# Altium integrated library Telit GSM GPRS.IntLib: 2 symbols
Pins are listed as number, name and electrical type; pins without a type are passive.

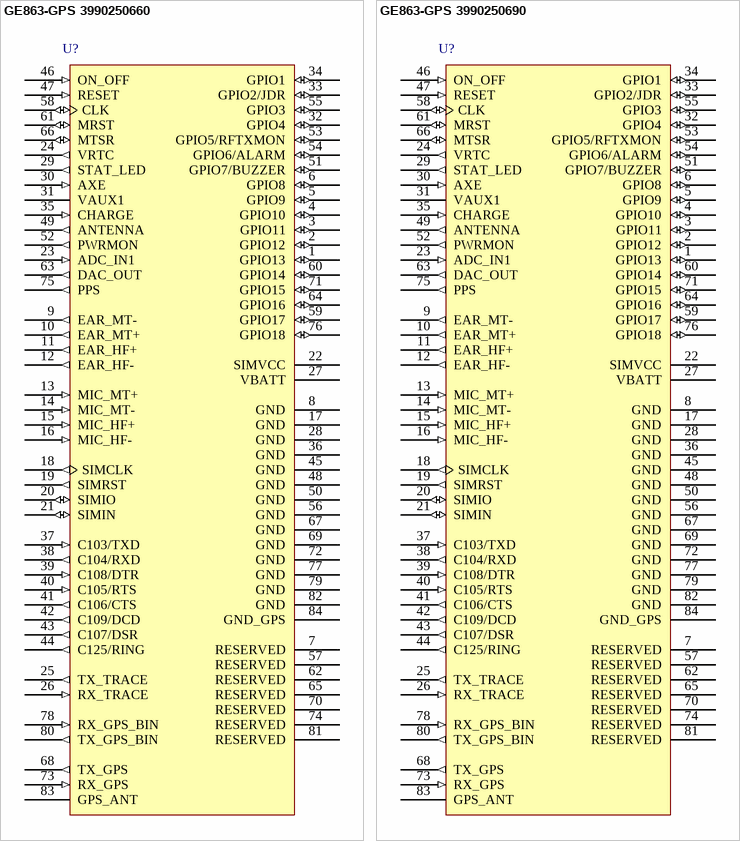
[diagram p0: symbols GE863-GPS 3990250660 to GE863-GPS 3990250690]

## GE863-GPS 3990250660
designator U?
GSM/GPRS (70mA) Module with 20-channel GPS and SiRFstarIII High-Sensitivity GPS Receiver, 84-Lead BGA; Published: 14-Mar-2008; DatasheetVersion: rev.6, Jun-2007; PackageVersion: Jun-2007; PackageReference: GE863-GPS; Publisher: Altium Limited; PackageDescription: GE863-GPS module; SM; 84 Leads; Body 41.4 x 31.4 mm (LxW max); ComponentLink1Description: Manufacturer Link; ComponentLink1URL: http://www.telit.com/en/products/gsm-gprs.php; ComponentLink2Description: Datasheet; ComponentLink2URL: http://www.telit.com/module/infopool/download.php?id=565
footprint GE863-GPSV (GE863-GPS module; SM; 84+67 Leads; Body 41.4 x 31.4 mm (LxW max))
footprint GE863-GPS2 (GE863-GPS module; SM; 84 Leads; Body 41.4 x 31.4 mm (LxW max))
pins: 1 GPIO13 (io), 2 GPIO12 (io), 3 GPIO11 (io), 4 GPIO10 (io), 5 GPIO9 (io), 6 GPIO8 (io), 7 RESERVED, 8 GND (power), 9 EAR_MT- (out), 10 EAR_MT+ (out), 11 EAR_HF+ (out), 12 EAR_HF- (out), 13 MIC_MT+ (in), 14 MIC_MT- (in), 15 MIC_HF+ (in), 16 MIC_HF- (in), 17 GND (power), 18 SIMCLK (out), 19 SIMRST (out), 20 SIMIO (io), 21 SIMIN (io), 22 SIMVCC (power), 23 ADC_IN1 (in), 24 VRTC (out), 25 TX_TRACE (out), 26 RX_TRACE (in), 27 VBATT (power), 28 GND (power), 29 STAT_LED (out), 30 AXE (in), 31 VAUX1 (power), 32 GPIO4 (io), 33 GPIO2/JDR (io), 34 GPIO1 (io), 35 CHARGE (in), 36 GND (power), 37 C103/TXD (in), 38 C104/RXD (out), 39 C108/DTR (in), 40 C105/RTS (in), 41 C106/CTS (out), 42 C109/DCD (out), 43 C107/DSR (out), 44 C125/RING (out), 45 GND (power), 46 ON_OFF (in), 47 RESET (in), 48 GND (power), 49 ANTENNA (out), 50 GND (power), 51 GPIO7/BUZZER (io), 52 PWRMON (out), 53 GPIO5/RFTXMON (io), 54 GPIO6/ALARM (io), 55 GPIO3 (io), 56 GND (power), 57 RESERVED, 58 CLK (io), 59 GPIO17 (io), 60 GPIO14 (io), 61 MRST (io), 62 RESERVED, 63 DAC_OUT (out), 64 GPIO16 (io), 65 RESERVED, 66 MTSR (io), 67 GND (power), 68 TX_GPS (out), 69 GND (power), 70 RESERVED, 71 GPIO15 (io), 72 GND (power), 73 RX_GPS (in), 74 RESERVED, 75 PPS (out), 76 GPIO18 (io), 77 GND (power), 78 RX_GPS_BIN (in), 79 GND (power), 80 TX_GPS_BIN (out), 81 RESERVED, 82 GND (power), 83 GPS_ANT, 84 GND_GPS (power)

## GE863-GPS 3990250690
designator U?
GSM/GPRS (55mA) Module with 20-channel GPS and SiRFstarIII High-Sensitivity GPS Receiver, 84-Lead BGA; Published: 14-Mar-2008; DatasheetVersion: rev.6, Jun-2007; PackageVersion: Jun-2007; PackageReference: GE863-GPS; Publisher: Altium Limited; PackageDescription: GE863-GPS module; SM; 84 Leads; Body 41.4 x 31.4 mm (LxW max); ComponentLink1Description: Manufacturer Link; ComponentLink1URL: http://www.telit.com/en/products/gsm-gprs.php; ComponentLink2Description: Datasheet; ComponentLink2URL: http://www.telit.com/module/infopool/download.php?id=565
footprint GE863-GPSV (GE863-GPS module; SM; 84+67 Leads; Body 41.4 x 31.4 mm (LxW max))
footprint GE863-GPS2 (GE863-GPS module; SM; 84 Leads; Body 41.4 x 31.4 mm (LxW max))
pins: 1 GPIO13 (io), 2 GPIO12 (io), 3 GPIO11 (io), 4 GPIO10 (io), 5 GPIO9 (io), 6 GPIO8 (io), 7 RESERVED, 8 GND (power), 9 EAR_MT- (out), 10 EAR_MT+ (out), 11 EAR_HF+ (out), 12 EAR_HF- (out), 13 MIC_MT+ (in), 14 MIC_MT- (in), 15 MIC_HF+ (in), 16 MIC_HF- (in), 17 GND (power), 18 SIMCLK (out), 19 SIMRST (out), 20 SIMIO (io), 21 SIMIN (io), 22 SIMVCC (power), 23 ADC_IN1 (in), 24 VRTC (out), 25 TX_TRACE (out), 26 RX_TRACE (in), 27 VBATT (power), 28 GND (power), 29 STAT_LED (out), 30 AXE (in), 31 VAUX1 (power), 32 GPIO4 (io), 33 GPIO2/JDR (io), 34 GPIO1 (io), 35 CHARGE (in), 36 GND (power), 37 C103/TXD (in), 38 C104/RXD (out), 39 C108/DTR (in), 40 C105/RTS (in), 41 C106/CTS (out), 42 C109/DCD (out), 43 C107/DSR (out), 44 C125/RING (out), 45 GND (power), 46 ON_OFF (in), 47 RESET (in), 48 GND (power), 49 ANTENNA (out), 50 GND (power), 51 GPIO7/BUZZER (io), 52 PWRMON (out), 53 GPIO5/RFTXMON (io), 54 GPIO6/ALARM (io), 55 GPIO3 (io), 56 GND (power), 57 RESERVED, 58 CLK (io), 59 GPIO17 (io), 60 GPIO14 (io), 61 MRST (io), 62 RESERVED, 63 DAC_OUT (out), 64 GPIO16 (io), 65 RESERVED, 66 MTSR (io), 67 GND (power), 68 TX_GPS (out), 69 GND (power), 70 RESERVED, 71 GPIO15 (io), 72 GND (power), 73 RX_GPS (in), 74 RESERVED, 75 PPS (out), 76 GPIO18 (io), 77 GND (power), 78 RX_GPS_BIN (in), 79 GND (power), 80 TX_GPS_BIN (out), 81 RESERVED, 82 GND (power), 83 GPS_ANT, 84 GND_GPS (power)